# Altium footprint library 控制板.PcbLib: 34 footprints (part 2 of 3)
Each footprint in its own frame and in the unit in brackets; x right, y up, seen from the top. Pads: shape width x height; smd on the part's side, far side on the other; paste and mask are expansions set on the pad; w line width, h text height; cw(c..) or ccw(c..) is an arc to the next point about the centre after c.
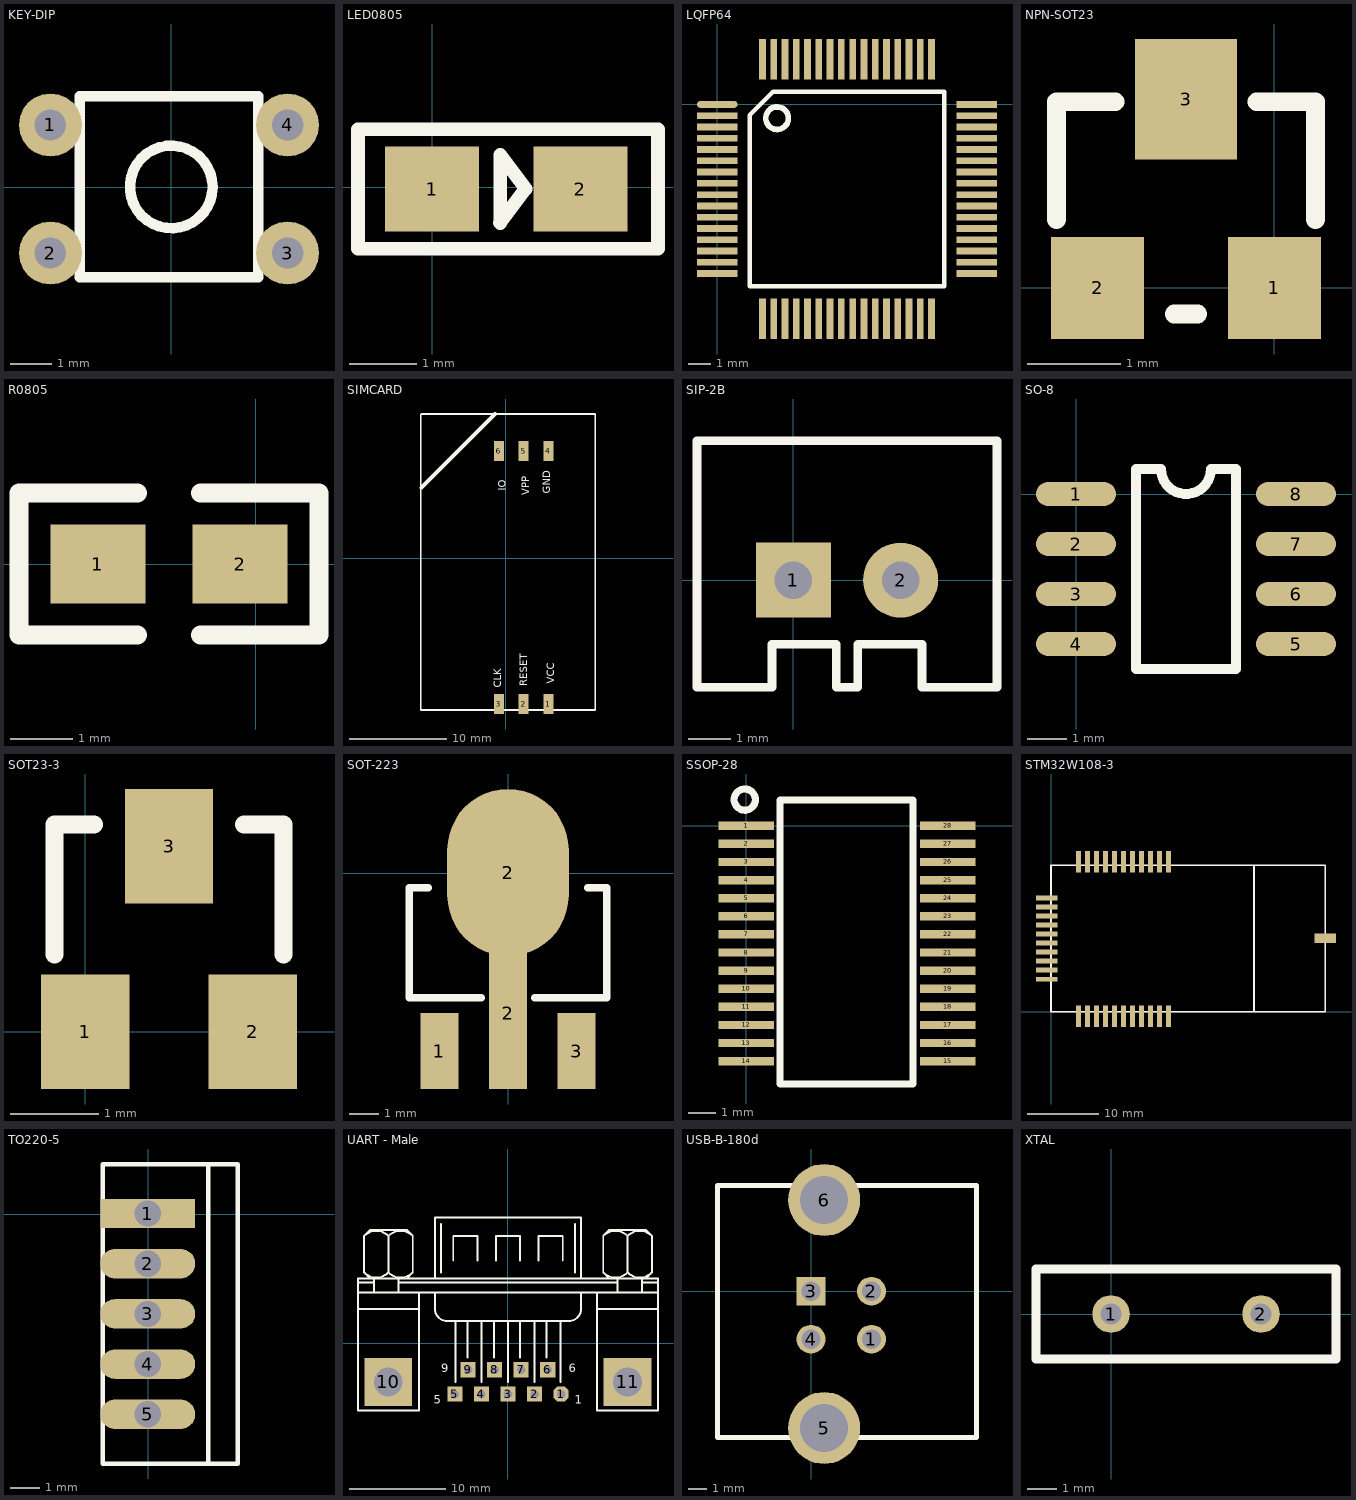
[diagram p1: the footprints below, top view; thin cyan lines are the x and y axes]

## KEY-DIP [mil]
height 270.08
pads (4):
  round 60 hole 30: 1(-115,59.45) 2(-115,-62.6) 3(111,-62.6) 4(111,59.45)
Top Overlay:
  circle w10: c0.18,0.39 r39.37
  lines w10: -87.06,-85.63 82.86,-85.63 82.86,87.01 -87.06,87.01 -87.06,-85.63

## LED0805 [mm]
height 6.86
pads (2):
  rect 1.4x1.27 smd: 1(0,-0.025) 2(2.21,-0.025)
Top Overlay:
  lines w0.203: 1.013,-0.529 1.394,-0.021 ; 1.016,-0.533 1.016,0.483 1.397,-0.025 ; -1.104,-0.914 3.367,-0.914 3.367,0.864 -1.104,0.864 -1.104,-0.914

## LQFP64 [mm]
height 6.86
pads (64):
  oval 1.8x0.3 smd: 1(0,0)
  rect 1.8x0.3 smd: 2(0,-0.5) 3(0,-1) 4(0,-1.5) 5(0,-2) 6(0,-2.5) 7(0,-3) 8(0,-3.5) 9(0,-4) 10(0,-4.5) 11(0,-5) 12(0,-5.5) 13(0,-6) 14(0,-6.5) 15(0,-7) 16(0,-7.5) 33(11.5,-7.5) 34(11.5,-7) 35(11.5,-6.5) 36(11.5,-6) 37(11.5,-5.5) 38(11.5,-5) 39(11.5,-4.5) 40(11.5,-4) 41(11.5,-3.5) 42(11.5,-3) 43(11.5,-2.5) 44(11.5,-2) 45(11.5,-1.5) 46(11.5,-1) 47(11.5,-0.5) 48(11.5,0)
  rect 0.3x1.8 smd: 17(2,-9.5) 18(2.5,-9.5) 19(3,-9.5) 20(3.5,-9.5) 21(4,-9.5) 22(4.5,-9.5) 23(5,-9.5) 24(5.5,-9.5) 25(6,-9.5) 26(6.5,-9.5) 27(7,-9.5) 28(7.5,-9.5) 29(8,-9.5) 30(8.5,-9.5) 31(9,-9.5) 32(9.5,-9.5) 49(9.5,2) 50(9,2) 51(8.5,2) 52(8,2) 53(7.5,2) 54(7,2) 55(6.5,2) 56(6,2) 57(5.5,2) 58(5,2) 59(4.5,2) 60(4,2) 61(3.5,2) 62(3,2) 63(2.5,2) 64(2,2)
Top Overlay:
  circle w0.254: c2.65,-0.61 r0.5
  lines w0.2: 1.435,-8.065 10.065,-8.065 10.065,0.565 2.47,0.565 1.435,-0.47 1.435,-8.065

## NPN-SOT23 [mm]
height 6.86
pads (3):
  rect 1x1.1 smd: 1(0,0) 2(-1.905,0)
  rect 1.1x1.3 smd: 3(-0.953,2.032)
Top Overlay:
  lines w0.203: -2.349,0.737 -2.349,2.007 -1.714,2.007 ; -1.079,-0.279 -0.826,-0.279 ; -0.191,2.007 0.445,2.007 0.445,0.737

## R0805 [mil]
height 270.08
pads (2):
  rect 60x50 smd: 1(-100,0) 2(-10,0)
Top Overlay:
  lines w12: -75,-45 -150,-45 -150,45 -75,45 ; -35,-45 40,-45 40,45 -35,45

## SIMCARD [mil]
height 270.08
pads (6):
  rect 40x80 smd: 1(171.63,-590.25) 2(71.63,-590.25) 3(-28.37,-590.25) 4(171.63,433.37) 5(71.63,433.37) 6(-28.37,433.37)
Top Overlay:
  lines w7: -344,-615.48 -344,581.37 ; -341.76,-613.63 361,-613.63 361,583.22 -341.76,583.22
  lines w15: -341.76,285.46 -44,583.22
  text "GND" at 180,260 h30
  text "CLK" at -19,-523.63 h30
  text "VCC" at 196,-508.63 h30
  text "RESET" at 86,-518.63 h30
  text "IO" at -0.37,272.37 h30
  text "VPP" at 95,255 h30

## SIP-2B [mil]
height 39.37
pads (2):
  rect 70x70 hole 35: 1(0,0)
  round 70 hole 35: 2(100,0)
Top Overlay:
  lines w8: -90,-100 -20,-100 -20,-60 40,-60 40,-100 60,-100 60,-60 120,-60 120,-100 190,-100 190,130 -90,130 -90,-100

## SO-8 [mil]
height 270.08
pads (8):
  oval 80x24 smd: 1(0,0) 2(0,-50) 3(0,-100) 4(0,-150) 5(220,-150) 6(220,-100) 7(220,-50) 8(220,0)
Top Overlay:
  lines w10: 60,-175 60,25 85,25 ccw(c110,25) 135,25 160,25 160,-175 60,-175

## SOT23-3 [mm]
height 6.86
pads (3):
  rect 1x1.3 smd: 1(0,0) 2(1.9,0) 3(0.95,2.1)
Top Overlay:
  lines w0.203: -0.35,0.875 -0.35,2.35 0.1,2.35 ; 1.8,2.35 2.25,2.35 2.25,0.875

## SOT-223 [mil]
height 270.08
pads (4):
  rect 50x100 smd: 1(-90.5,-234) 3(90.5,-234)
  rect 50x200 smd: 2(0,-184)
  oval 160x220 smd: 2(0,1)
Top Overlay:
  lines w10: -105,-19 -130,-19 -130,-164 -35,-164 ; 35,-164 130,-164 130,-19 105,-19

## SSOP-28 [mm]
height 6.86
pads (28):
  rect 2x0.3 smd: 1(0,0) 2(0,-0.65) 3(0,-1.3) 4(0,-1.95) 5(0,-2.6) 6(0,-3.25) 7(0,-3.9) 8(0,-4.55) 9(0,-5.2) 10(0,-5.85) 11(0,-6.5) 12(0,-7.15) 13(0,-7.8) 14(0,-8.45) 15(7.239,-8.45) 16(7.239,-7.8) 17(7.239,-7.15) 18(7.239,-6.5) 19(7.239,-5.85) 20(7.239,-5.2) 21(7.239,-4.55) 22(7.239,-3.9) 23(7.239,-3.25) 24(7.239,-2.6) 25(7.239,-1.95) 26(7.239,-1.3) 27(7.239,-0.65) 28(7.239,0)
Top Overlay:
  circle w0.254: c-0.051,0.94 r0.381
  lines w0.254: 1.219,-9.271 5.994,-9.271 5.994,0.929 1.219,0.929 1.219,-9.271

## STM32W108-3 [mm]
height 6.86
pads (33):
  rect 0.7x3 smd: 1(16.51,21.074) 2(15.24,21.074) 3(13.97,21.074) 4(12.7,21.074) 5(11.43,21.074) 6(10.16,21.074) 7(8.89,21.074) 8(7.62,21.074) 9(6.35,21.074) 10(5.08,21.074) 11(3.81,21.074) 22(3.81,-0.627) 23(5.08,-0.627) 24(6.35,-0.627) 25(7.62,-0.627) 26(8.89,-0.627) 27(10.16,-0.627) 28(11.43,-0.627) 29(12.7,-0.627) 30(13.97,-0.627) 31(15.24,-0.627) 32(16.51,-0.627)
  rect 3x0.7 smd: 12(-0.627,16.002) 13(-0.627,14.732) 14(-0.627,13.462) 15(-0.627,12.192) 16(-0.627,10.922) 17(-0.627,9.652) 18(-0.627,8.382) 19(-0.627,7.112) 20(-0.627,5.842) 21(-0.627,4.572)
  rect 3x1.3 smd: ""(38.5,10.314)
Top Overlay:
  lines w0.254: 0,0 28.5,0 38.5,0 38.5,20.5 ; 0,0.074 0,20.574 28.5,20.574 28.5,0.074 ; 28.481,20.574 38.481,20.574

## TO220-5 [mil] "可"
height 270.08
pads (5):
  rect 126.67x39.17 hole 35: 1(-0.86,1)
  oval 126.67x39.17 hole 35: 2(-0.86,-65.93) 3(-0.86,-132.86) 4(-0.86,-199.79) 5(-0.86,-266.72)
Top Overlay:
  lines w6: 80,-333 80,67 ; -60.86,-333 -60.86,67 119.14,67 119.14,-333 -60.86,-333

## UART - Male [mil]
pads (11):
  oct 62x62 hole 35: 1(218.39,-209.25)
  rect 62x62 hole 35: 2(109.22,-209.25) 3(0.05,-209.25) 4(-109.11,-209.25) 5(-218.28,-209.25) 6(163.39,-109.25) 7(54.22,-109.25) 8(-54.95,-109.25) 9(-164.11,-109.25)
  rect 196.67x196.67 hole 118.33: 10(-492.45,-159.25) 11(491.72,-159.25)
Top Overlay:
  lines w8: -616.61,140.75 -366.61,140.75 ; -616.61,207.41 616.72,207.41 ; -616.61,249.08 -549.95,249.08 ; -591.7,290.66 ccw(c-541.61,340.75) -491.53,290.66 ; -591.7,440.83 cw(c-541.61,390.75) -491.53,440.83 ; -566.61,265.75 -591.61,290.75 -591.61,440.75 -566.61,465.75 -416.61,465.75 -391.61,440.75 -391.61,290.75 -416.61,265.75 ; -549.95,207.41 -549.95,265.75 ; -491.7,290.66 ccw(c-441.61,340.75) -391.53,290.66 ; -491.7,440.83 cw(c-441.61,390.75) -391.53,440.83 ; -491.61,290.75 -491.61,440.75 ; -449.95,207.41 -449.95,265.75 ; -449.95,249.08 450.05,249.08 ; -366.61,207.41 -366.61,-275.92 -616.61,-275.92 -616.61,265.75 616.72,265.75 616.72,-275.92 366.72,-275.92 366.72,207.41 ; -299.95,207.41 -299.95,140.75 ccw(c-249.95,140.75) -249.95,90.75 250.05,90.75 ccw(c250.05,140.75) 300.05,140.75 300.05,207.41 ; -299.95,265.75 -299.95,515.75 300.05,515.75 300.05,265.75 ; -274.95,290.75 -274.95,490.75 ; -224.95,340.75 -224.95,440.75 -124.95,440.75 -124.95,340.75 ; -216.61,-159.25 -216.61,90.75 ; -166.61,-59.25 -166.61,90.75 ; -108.28,-159.25 -108.28,90.75 ; -58.28,-59.25 -58.28,90.75 ; -49.95,340.75 -49.95,440.75 50.05,440.75 50.05,340.75 ; 0.05,-159.25 0.05,90.75 ; 50.05,-59.25 50.05,90.75 ; 108.39,-159.25 108.39,90.75 ; 125.05,340.75 125.05,440.75 225.05,440.75 225.05,340.75 ; 158.39,-59.25 158.39,90.75 ; 216.72,-159.25 216.72,90.75 ; 275.05,290.75 275.05,490.75 ; 366.72,140.75 616.72,140.75 ; 391.63,290.66 ccw(c441.72,340.75) 491.81,290.66 ; 391.63,440.83 cw(c441.72,390.75) 491.81,440.83 ; 416.72,265.75 391.72,290.75 391.72,440.75 416.72,465.75 566.72,465.75 591.72,440.75 591.72,290.75 566.72,265.75 ; 450.05,207.41 450.05,265.75 ; 491.63,290.66 ccw(c541.72,340.75) 591.81,290.66 ; 491.63,440.83 cw(c541.72,390.75) 591.81,440.83 ; 491.72,290.75 491.72,440.75 ; 550.05,207.41 550.05,265.75 ; 550.05,249.08 616.72,249.08
  text "1" at 275,-250 h35
  text "6" at 250,-120 h35
  text "5" at -305,-250 h35
  text "9" at -275,-120 h35

## USB-B-180d [mil] "180度"
height 636.22
pads (6):
  round 60.06 hole 40: 1(125.98,-100) 2(125.98,0) 4(0,-100)
  rect 60.06x60.06 hole 40: 3(0,0)
  round 150 hole 100: 5(27.56,-285) 6(27.56,190)
Top Overlay:
  lines w10: -195,-305 -195,220 345,220 345,-305 -195,-305

## XTAL [mil]
height 196.85
pads (2):
  round 50 hole 28: 1(0,0) 2(200,0)
Top Overlay:
  lines w12: -100,-60 300,-60 300,60 -100,60 -100,-60